# EAGLE library part MKV31F512VLL12 (library MKV31F512VLL12)
The Kinetis KV3x family of MCUs delivers a high-performance solution for BLDC, PMSM and ACIM motor control applications. Built upon the ARM Cortex-M4 core running at 100 or 120 MHz with DSP instruction set and floating point unit, the KV3 devices feature dual 16-bit analog-to-digital converters (ADCs) sampling at up to 1.2 mega samples per second (MSPS) in 12-bit mode, multiple motor control timers, 64 to 512 KB of flash memory and a comprehensive enablement suite from proprietary and third-party resources, including reference designs for ACIM, BLDC and PMSM motor control built on NXP's Embedded Software libraries and motor configuration tools. The KV3x is the first device in the Kinetis V portfolio to be enabled with Kinetis Motor Suite (KMS). KMS is a software solution that enables the rapid configuration of motor drive systems, and accelerates development of the final motor drive application, whilst improving overall motor system performance. KMS simplifies motor control across variable speeds and loads of any type of 3-ph PMSM motor regardless of power level. For more information on Kinetis Motor Suite go to nxp.com/kms
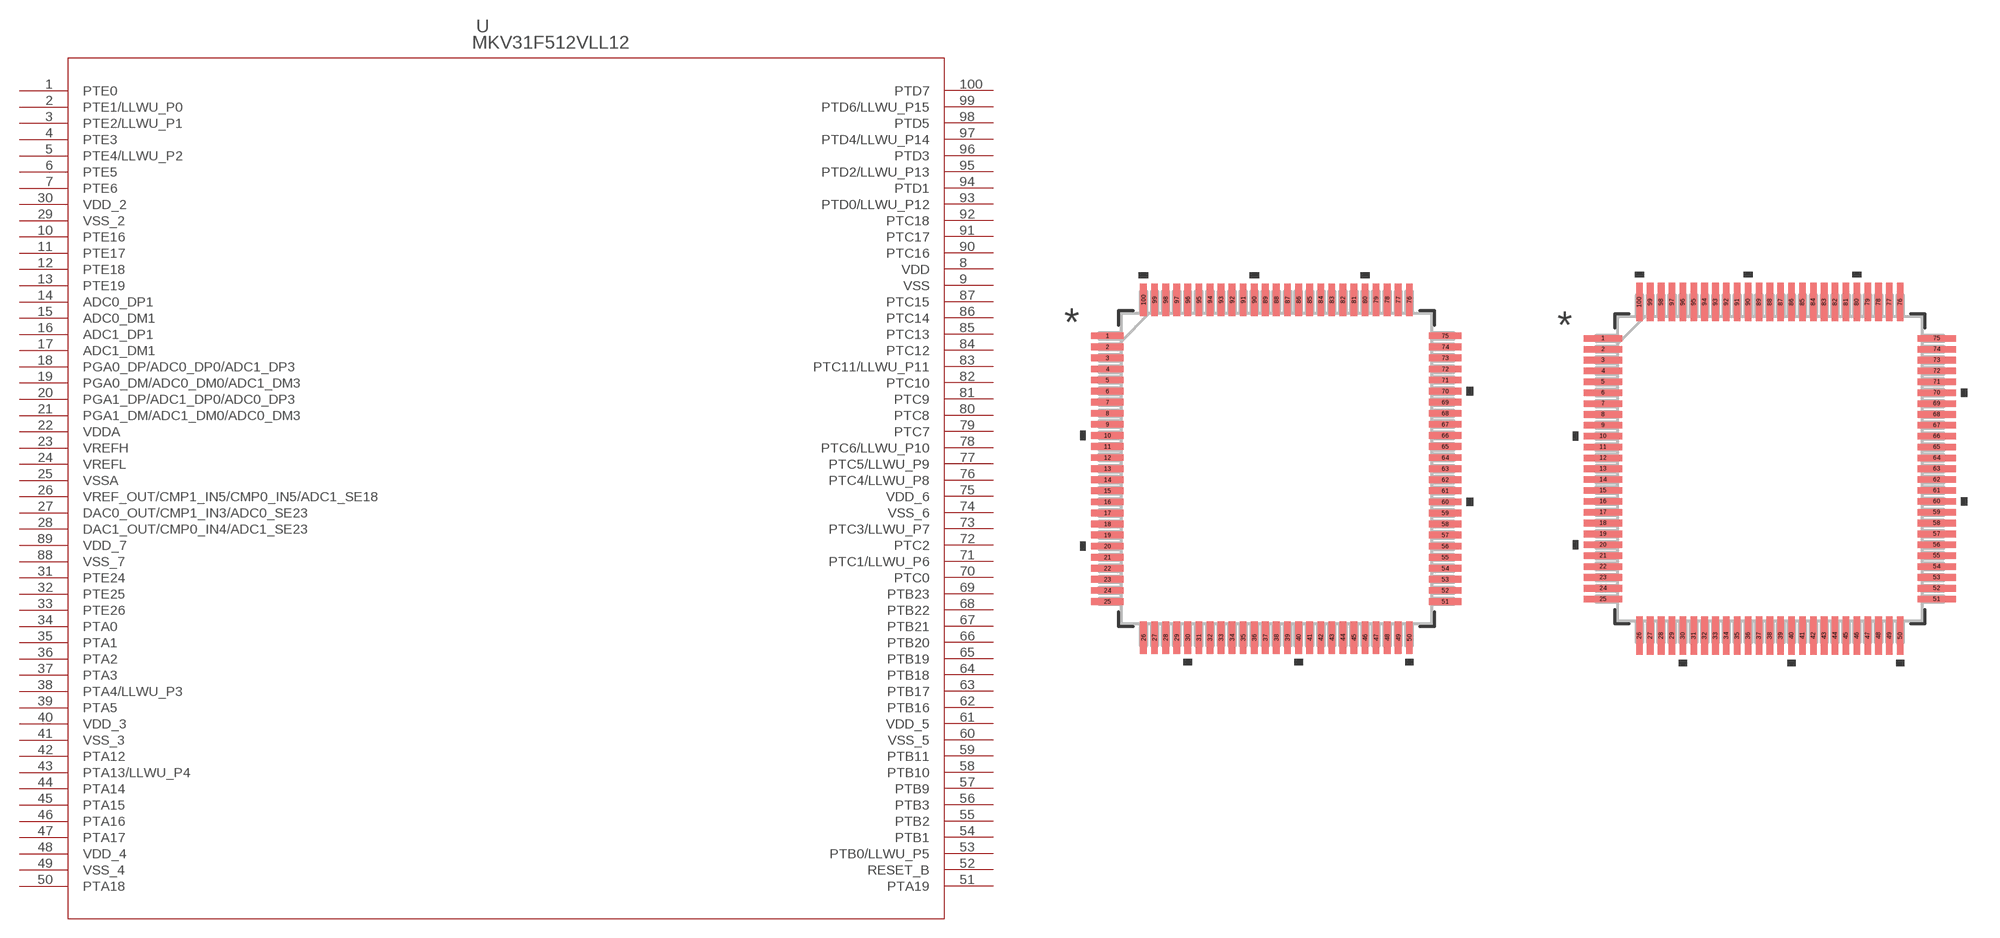
[diagram p0: symbol with the pads of LQFP-100_14X14X1_7; footprints LQFP-100_14X14X1_7, LQFP-100_14X14X1_7-M]

Designator prefix U

## MKV31F512VLL12  [LQFP-100_14X14X1_7]
1  PTE0
2  PTE1/LLWU_P0
3  PTE2/LLWU_P1
4  PTE3
5  PTE4/LLWU_P2
6  PTE5
7  PTE6
8  VDD  pwr
9  VSS  pwr
10  PTE16
11  PTE17
12  PTE18
13  PTE19
14  ADC0_DP1
15  ADC0_DM1
16  ADC1_DP1
17  ADC1_DM1
18  PGA0_DP/ADC0_DP0/ADC1_DP3
19  PGA0_DM/ADC0_DM0/ADC1_DM3
20  PGA1_DP/ADC1_DP0/ADC0_DP3
21  PGA1_DM/ADC1_DM0/ADC0_DM3
22  VDDA  pwr
23  VREFH  pwr
24  VREFL  pwr
25  VSSA  pwr
26  VREF_OUT/CMP1_IN5/CMP0_IN5/ADC1_SE18
27  DAC0_OUT/CMP1_IN3/ADC0_SE23
28  DAC1_OUT/CMP0_IN4/ADC1_SE23
29  VSS_2  pwr
30  VDD_2  pwr
31  PTE24
32  PTE25
33  PTE26
34  PTA0
35  PTA1
36  PTA2
37  PTA3
38  PTA4/LLWU_P3
39  PTA5
40  VDD_3  pwr
41  VSS_3  pwr
42  PTA12
43  PTA13/LLWU_P4
44  PTA14
45  PTA15
46  PTA16
47  PTA17
48  VDD_4  pwr
49  VSS_4  pwr
50  PTA18
51  PTA19
52  RESET_B  pas
53  PTB0/LLWU_P5
54  PTB1
55  PTB2
56  PTB3
57  PTB9
58  PTB10
59  PTB11
60  VSS_5  pwr
61  VDD_5  pwr
62  PTB16
63  PTB17
64  PTB18
65  PTB19
66  PTB20
67  PTB21
68  PTB22
69  PTB23
70  PTC0
71  PTC1/LLWU_P6
72  PTC2
73  PTC3/LLWU_P7
74  VSS_6  pwr
75  VDD_6  pwr
76  PTC4/LLWU_P8
77  PTC5/LLWU_P9
78  PTC6/LLWU_P10
79  PTC7
80  PTC8
81  PTC9
82  PTC10
83  PTC11/LLWU_P11
84  PTC12
85  PTC13
86  PTC14
87  PTC15
88  VSS_7  pwr
89  VDD_7  pwr
90  PTC16
91  PTC17
92  PTC18
93  PTD0/LLWU_P12
94  PTD1
95  PTD2/LLWU_P13
96  PTD3
97  PTD4/LLWU_P14
98  PTD5
99  PTD6/LLWU_P15
100  PTD7

## MKV31F512VLL12-M  [LQFP-100_14X14X1_7-M]
Pads as for LQFP-100_14X14X1_7

## MKV31F512VLL12-L  [LQFP-100_14X14X1_7-L]
Pads as for LQFP-100_14X14X1_7

## Footprint LQFP-100_14X14X1_7 (pad centres in mm)
smd 1.461 x 0.3: 1 -7.625,6; 2 -7.625,5.5; 3 -7.625,5; 4 -7.625,4.5; 5 -7.625,4; 6 -7.625,3.5; 7 -7.625,3; 8 -7.625,2.5; 9 -7.625,2; 10 -7.625,1.5; 11 -7.625,1; 12 -7.625,0.5; 13 -7.625,0; 14 -7.625,-0.5; 15 -7.625,-1; 16 -7.625,-1.5; 17 -7.625,-2; 18 -7.625,-2.5; 19 -7.625,-3; 20 -7.625,-3.5; 21 -7.625,-4; 22 -7.625,-4.5; 23 -7.625,-5; 24 -7.625,-5.5; 25 -7.625,-6; 51 7.625,-6; 52 7.625,-5.5; 53 7.625,-5; 54 7.625,-4.5; 55 7.625,-4; 56 7.625,-3.5; 57 7.625,-3; 58 7.625,-2.5; 59 7.625,-2; 60 7.625,-1.5; 61 7.625,-1; 62 7.625,-0.5; 63 7.625,0; 64 7.625,0.5; 65 7.625,1; 66 7.625,1.5; 67 7.625,2; 68 7.625,2.5; 69 7.625,3; 70 7.625,3.5; 71 7.625,4; 72 7.625,4.5; 73 7.625,5; 74 7.625,5.5; 75 7.625,6
smd 0.3 x 1.461: 26 -6,-7.625; 27 -5.5,-7.625; 28 -5,-7.625; 29 -4.5,-7.625; 30 -4,-7.625; 31 -3.5,-7.625; 32 -3,-7.625; 33 -2.5,-7.625; 34 -2,-7.625; 35 -1.5,-7.625; 36 -1,-7.625; 37 -0.5,-7.625; 38 0,-7.625; 39 0.5,-7.625; 40 1,-7.625; 41 1.5,-7.625; 42 2,-7.625; 43 2.5,-7.625; 44 3,-7.625; 45 3.5,-7.625; 46 4,-7.625; 47 4.5,-7.625; 48 5,-7.625; 49 5.5,-7.625; 50 6,-7.625; 76 6,7.625; 77 5.5,7.625; 78 5,7.625; 79 4.5,7.625; 80 4,7.625; 81 3.5,7.625; 82 3,7.625; 83 2.5,7.625; 84 2,7.625; 85 1.5,7.625; 86 1,7.625; 87 0.5,7.625; 88 0,7.625; 89 -0.5,7.625; 90 -1,7.625; 91 -1.5,7.625; 92 -2,7.625; 93 -2.5,7.625; 94 -3,7.625; 95 -3.5,7.625; 96 -4,7.625; 97 -4.5,7.625; 98 -5,7.625; 99 -5.5,7.625; 100 -6,7.625

## Footprint LQFP-100_14X14X1_7-M (pad centres in mm)
smd 1.766 x 0.3: 1 -7.676,6; 2 -7.676,5.5; 3 -7.676,5; 4 -7.676,4.5; 5 -7.676,4; 6 -7.676,3.5; 7 -7.676,3; 8 -7.676,2.5; 9 -7.676,2; 10 -7.676,1.5; 11 -7.676,1; 12 -7.676,0.5; 13 -7.676,0; 14 -7.676,-0.5; 15 -7.676,-1; 16 -7.676,-1.5; 17 -7.676,-2; 18 -7.676,-2.5; 19 -7.676,-3; 20 -7.676,-3.5; 21 -7.676,-4; 22 -7.676,-4.5; 23 -7.676,-5; 24 -7.676,-5.5; 25 -7.676,-6; 51 7.676,-6; 52 7.676,-5.5; 53 7.676,-5; 54 7.676,-4.5; 55 7.676,-4; 56 7.676,-3.5; 57 7.676,-3; 58 7.676,-2.5; 59 7.676,-2; 60 7.676,-1.5; 61 7.676,-1; 62 7.676,-0.5; 63 7.676,0; 64 7.676,0.5; 65 7.676,1; 66 7.676,1.5; 67 7.676,2; 68 7.676,2.5; 69 7.676,3; 70 7.676,3.5; 71 7.676,4; 72 7.676,4.5; 73 7.676,5; 74 7.676,5.5; 75 7.676,6
smd 0.3 x 1.766: 26 -6,-7.676; 27 -5.5,-7.676; 28 -5,-7.676; 29 -4.5,-7.676; 30 -4,-7.676; 31 -3.5,-7.676; 32 -3,-7.676; 33 -2.5,-7.676; 34 -2,-7.676; 35 -1.5,-7.676; 36 -1,-7.676; 37 -0.5,-7.676; 38 0,-7.676; 39 0.5,-7.676; 40 1,-7.676; 41 1.5,-7.676; 42 2,-7.676; 43 2.5,-7.676; 44 3,-7.676; 45 3.5,-7.676; 46 4,-7.676; 47 4.5,-7.676; 48 5,-7.676; 49 5.5,-7.676; 50 6,-7.676; 76 6,7.676; 77 5.5,7.676; 78 5,7.676; 79 4.5,7.676; 80 4,7.676; 81 3.5,7.676; 82 3,7.676; 83 2.5,7.676; 84 2,7.676; 85 1.5,7.676; 86 1,7.676; 87 0.5,7.676; 88 0,7.676; 89 -0.5,7.676; 90 -1,7.676; 91 -1.5,7.676; 92 -2,7.676; 93 -2.5,7.676; 94 -3,7.676; 95 -3.5,7.676; 96 -4,7.676; 97 -4.5,7.676; 98 -5,7.676; 99 -5.5,7.676; 100 -6,7.676

## Footprint LQFP-100_14X14X1_7-L (pad centres in mm)
smd 1.156 x 0.3: 1 -7.574,6; 2 -7.574,5.5; 3 -7.574,5; 4 -7.574,4.5; 5 -7.574,4; 6 -7.574,3.5; 7 -7.574,3; 8 -7.574,2.5; 9 -7.574,2; 10 -7.574,1.5; 11 -7.574,1; 12 -7.574,0.5; 13 -7.574,0; 14 -7.574,-0.5; 15 -7.574,-1; 16 -7.574,-1.5; 17 -7.574,-2; 18 -7.574,-2.5; 19 -7.574,-3; 20 -7.574,-3.5; 21 -7.574,-4; 22 -7.574,-4.5; 23 -7.574,-5; 24 -7.574,-5.5; 25 -7.574,-6; 51 7.574,-6; 52 7.574,-5.5; 53 7.574,-5; 54 7.574,-4.5; 55 7.574,-4; 56 7.574,-3.5; 57 7.574,-3; 58 7.574,-2.5; 59 7.574,-2; 60 7.574,-1.5; 61 7.574,-1; 62 7.574,-0.5; 63 7.574,0; 64 7.574,0.5; 65 7.574,1; 66 7.574,1.5; 67 7.574,2; 68 7.574,2.5; 69 7.574,3; 70 7.574,3.5; 71 7.574,4; 72 7.574,4.5; 73 7.574,5; 74 7.574,5.5; 75 7.574,6
smd 0.3 x 1.156: 26 -6,-7.574; 27 -5.5,-7.574; 28 -5,-7.574; 29 -4.5,-7.574; 30 -4,-7.574; 31 -3.5,-7.574; 32 -3,-7.574; 33 -2.5,-7.574; 34 -2,-7.574; 35 -1.5,-7.574; 36 -1,-7.574; 37 -0.5,-7.574; 38 0,-7.574; 39 0.5,-7.574; 40 1,-7.574; 41 1.5,-7.574; 42 2,-7.574; 43 2.5,-7.574; 44 3,-7.574; 45 3.5,-7.574; 46 4,-7.574; 47 4.5,-7.574; 48 5,-7.574; 49 5.5,-7.574; 50 6,-7.574; 76 6,7.574; 77 5.5,7.574; 78 5,7.574; 79 4.5,7.574; 80 4,7.574; 81 3.5,7.574; 82 3,7.574; 83 2.5,7.574; 84 2,7.574; 85 1.5,7.574; 86 1,7.574; 87 0.5,7.574; 88 0,7.574; 89 -0.5,7.574; 90 -1,7.574; 91 -1.5,7.574; 92 -2,7.574; 93 -2.5,7.574; 94 -3,7.574; 95 -3.5,7.574; 96 -4,7.574; 97 -4.5,7.574; 98 -5,7.574; 99 -5.5,7.574; 100 -6,7.574